# Altium schematic symbol library 0x2a002a.SchLib: 11 symbols
Pins are listed as number, name and electrical type; pins without a type are passive.

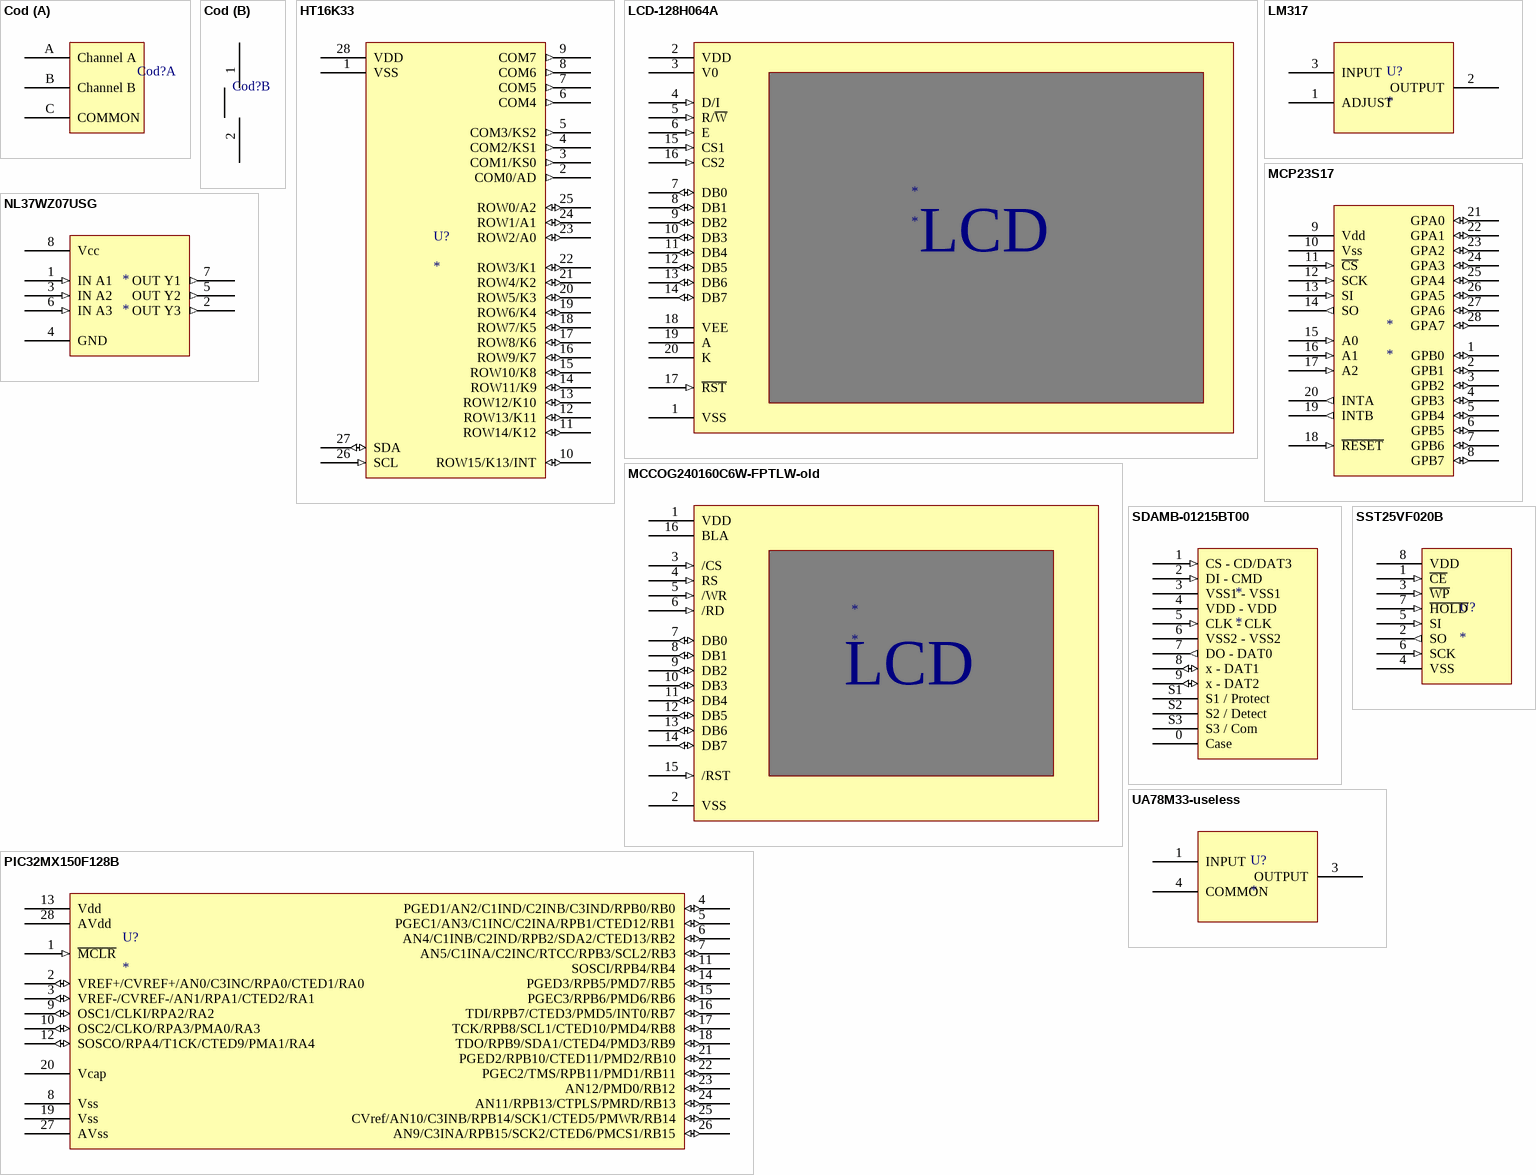
[diagram p0: symbols Cod to UA78M33-useless]

## Cod
designator Cod?
footprint PEC11R-4xxxF-Sxxxx
part A pins: A Channel A, B Channel B, C COMMON (power)
part B pins: 1, 2

## HT16K33
designator U?
footprint HT16K33
pins: 1 VSS (power), 2 COM0/AD (out), 3 COM1/KS0 (out), 4 COM2/KS1 (out), 5 COM3/KS2 (out), 6 COM4 (out), 7 COM5 (out), 8 COM6 (out), 9 COM7 (out), 10 ROW15/K13/INT (io), 11 ROW14/K12 (io), 12 ROW13/K11 (io), 13 ROW12/K10 (io), 14 ROW11/K9 (io), 15 ROW10/K8 (io), 16 ROW9/K7 (io), 17 ROW8/K6 (io), 18 ROW7/K5 (io), 19 ROW6/K4 (io), 20 ROW5/K3 (io), 21 ROW4/K2 (io), 22 ROW3/K1 (io), 23 ROW2/A0 (io), 24 ROW1/A1 (io), 25 ROW0/A2 (io), 26 SCL (in), 27 SDA (io), 28 VDD (power)

## LCD-128H064A
designator *
pins: 1 VSS (power), 2 VDD (power), 3 V0 (power), 4 D/I (in), 5 R/~{W} (in), 6 E (in), 7 DB0 (io), 8 DB1 (io), 9 DB2 (io), 10 DB3 (io), 11 DB4 (io), 12 DB5 (io), 13 DB6 (io), 14 DB7 (io), 15 CS1 (in), 16 CS2 (in), 17 ~{RST} (in), 18 VEE (power), 19 A (power), 20 K (power)
text: LCD

## LM317
designator U?
pins: 1 ADJUST (power), 2 OUTPUT (power), 3 INPUT (power)

## MCCOG240160C6W-FPTLW-old
designator *
pins: 1 VDD (power), 2 VSS (power), 3 /CS (in), 4 RS (in), 5 /WR (in), 6 /RD (in), 7 DB0 (io), 8 DB1 (io), 9 DB2 (io), 10 DB3 (io), 11 DB4 (io), 12 DB5 (io), 13 DB6 (io), 14 DB7 (io), 15 /RST (in), 16 BLA (power)
text: LCD

## MCP23S17
designator *
pins: 1 GPB0 (io), 2 GPB1 (io), 3 GPB2 (io), 4 GPB3 (io), 5 GPB4 (io), 6 GPB5 (io), 7 GPB6 (io), 8 GPB7 (io), 9 Vdd (power), 10 Vss (power), 11 ~{CS} (in), 12 SCK (in), 13 SI (in), 14 SO (out), 15 A0 (in), 16 A1 (in), 17 A2 (in), 18 ~{RESET} (in), 19 INTB (out), 20 INTA (out), 21 GPA0 (io), 22 GPA1 (io), 23 GPA2 (io), 24 GPA3 (io), 25 GPA4 (io), 26 GPA5 (io), 27 GPA6 (io), 28 GPA7 (io)

## NL37WZ07USG
designator *
pins: 1 IN A1 (in), 2 OUT Y3 (out), 3 IN A2 (in), 4 GND (power), 5 OUT Y2 (out), 6 IN A3 (in), 7 OUT Y1 (out), 8 Vcc (power)

## PIC32MX150F128B
designator U?
footprint PIC32MX150F128B-soic
pins: 1 ~{MCLR} (in), 2 VREF+/CVREF+/AN0/C3INC/RPA0/CTED1/RA0 (io), 3 VREF-/CVREF-/AN1/RPA1/CTED2/RA1 (io), 4 PGED1/AN2/C1IND/C2INB/C3IND/RPB0/RB0 (io), 5 PGEC1/AN3/C1INC/C2INA/RPB1/CTED12/RB1 (io), 6 AN4/C1INB/C2IND/RPB2/SDA2/CTED13/RB2 (io), 7 AN5/C1INA/C2INC/RTCC/RPB3/SCL2/RB3 (io), 8 Vss (power), 9 OSC1/CLKI/RPA2/RA2 (io), 10 OSC2/CLKO/RPA3/PMA0/RA3 (io), 11 SOSCI/RPB4/RB4 (io), 12 SOSCO/RPA4/T1CK/CTED9/PMA1/RA4 (io), 13 Vdd (power), 14 PGED3/RPB5/PMD7/RB5 (io), 15 PGEC3/RPB6/PMD6/RB6 (io), 16 TDI/RPB7/CTED3/PMD5/INT0/RB7 (io), 17 TCK/RPB8/SCL1/CTED10/PMD4/RB8 (io), 18 TDO/RPB9/SDA1/CTED4/PMD3/RB9 (io), 19 Vss (power), 20 Vcap (power), 21 PGED2/RPB10/CTED11/PMD2/RB10 (io), 22 PGEC2/TMS/RPB11/PMD1/RB11 (io), 23 AN12/PMD0/RB12 (io), 24 AN11/RPB13/CTPLS/PMRD/RB13 (io), 25 CVref/AN10/C3INB/RPB14/SCK1/CTED5/PMWR/RB14 (io), 26 AN9/C3INA/RPB15/SCK2/CTED6/PMCS1/RB15 (io), 27 AVss (power), 28 AVdd (power)

## SDAMB-01215BT00
designator *
pins: 0 Case, 1 CS - CD/DAT3 (in), 2 DI - CMD (in), 3 VSS1 - VSS1 (power), 4 VDD - VDD (power), 5 CLK - CLK (in), 6 VSS2 - VSS2 (power), 7 DO - DAT0 (out), 8 x - DAT1 (io), 9 x - DAT2 (io), S1 S1 / Protect, S2 S2 / Detect, S3 S3 / Com

## SST25VF020B
designator U?
pins: 1 ~{CE} (in), 2 SO (out), 3 ~{WP} (in), 4 VSS (power), 5 SI (in), 6 SCK (in), 7 ~{HOLD} (in), 8 VDD (power)

## UA78M33-useless
designator U?
pins: 1 INPUT (power), 3 OUTPUT (power), 4 COMMON (power)